# Altium schematic symbol library STM32U073K8U6.SchLib: 1 symbol
Pins are listed as number, name and electrical type; pins without a type are passive.

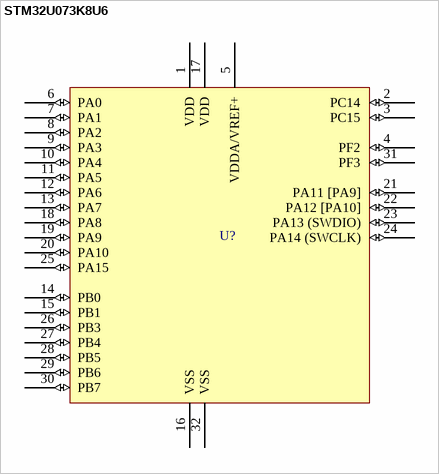
[diagram p0: symbol STM32U073K8U6]

## STM32U073K8U6
designator U?  (value not drawn)
Ultra-low-power Arm Cortex-M0+ MCU with 64 Kbytes of Flash memory, LCD, USB, 56 MHz CPU
pins: 1 VDD (power), 2 PC14 (io), 3 PC15 (io), 4 PF2 (io), 5 VDDA/VREF+ (power), 6 PA0 (io), 7 PA1 (io), 8 PA2 (io), 9 PA3 (io), 10 PA4 (io), 11 PA5 (io), 12 PA6 (io), 13 PA7 (io), 14 PB0 (io), 15 PB1 (io), 16 VSS (power), 17 VDD (power), 18 PA8 (io), 19 PA9 (io), 20 PA10 (io), 21 PA11 [PA9] (io), 22 PA12 [PA10] (io), 23 PA13 (SWDIO) (io), 24 PA14 (SWCLK) (io), 25 PA15 (io), 26 PB3 (io), 27 PB4 (io), 28 PB5 (io), 29 PB6 (io), 30 PB7 (io), 31 PF3 (io), 32 VSS (power)